# Altium footprint library Conn_Wurth_Electronics_74655095R_eec_MFG.PcbLib: 1 footprints
Each footprint in its own frame and in the unit in brackets; x right, y up, seen from the top. Pads: shape width x height; smd on the part's side, far side on the other; paste and mask are expansions set on the pad; w line width, h text height; cw(c..) or ccw(c..) is an arc to the next point about the centre after c.
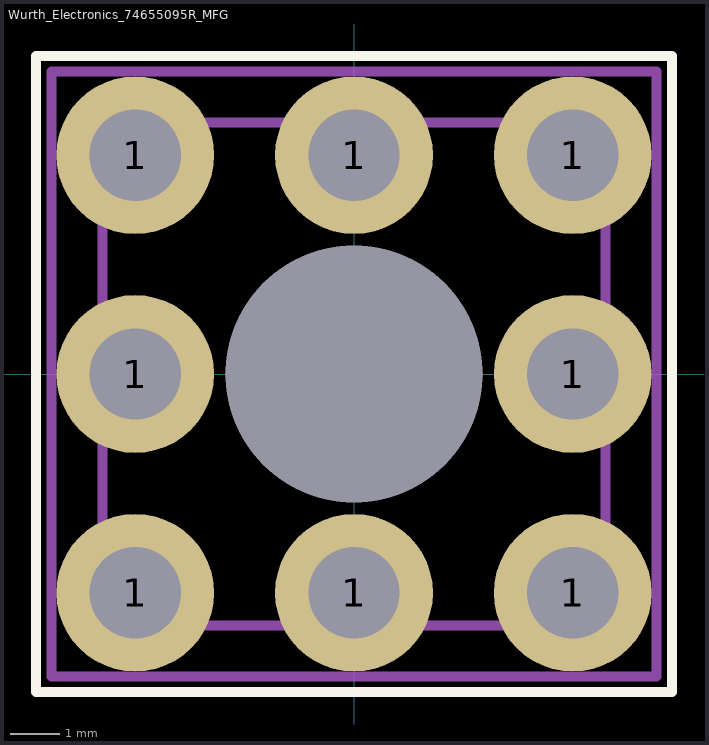
[diagram p0: the footprint, top view; thin cyan lines are the x and y axes]

## Wurth_Electronics_74655095R_MFG [mm]
pads (9):
  round 3.2 hole 1.85 paste-1000 mask+0: 1(-4.435,-4.435) 1(-4.435,0) 1(-4.435,4.435) 1(0,-4.435) 1(0,4.435) 1(4.435,-4.435) 1(4.435,0) 1(4.435,4.435)
  round 5.2 hole 5.2 unplated paste-1000 mask+0: ""(0,0)
Top Overlay:
  lines w0.2: -6.45,-6.45 6.45,-6.45 6.45,6.45 -6.45,6.45 -6.45,-6.45
Top Paste:
  circle w1.55: c-4.435,4.435 r0.775
  circle w1.55: c0,4.435 r0.775
  circle w1.55: c4.435,4.435 r0.775
  circle w1.55: c-4.435,-4.435 r0.775
  circle w1.55: c0,-4.435 r0.775
  circle w1.55: c4.435,-4.435 r0.775
  circle w1.55: c-4.435,0 r0.775
  circle w1.55: c4.435,0 r0.775
Mechanical 10:
  lines w0.2: -6.135,-6.135 6.135,-6.135 6.135,6.135 -6.135,6.135 -6.135,-6.135
  text ".Designator" at 0,0 h1
Mechanical 12:
  lines w0.2: -5.1,-5.1 5.1,-5.1 5.1,5.1 -5.1,5.1 -5.1,-5.1
Mechanical 15:
  lines w0.1: -0.5,0 0.5,0 ; 0,-0.5 0,0.5
  lines w0.2: -6.135,-6.135 6.135,-6.135 6.135,6.135 -6.135,6.135 -6.135,-6.135
3D body "Conn_Wurth_Electronics_74655095R_eec.STEP": height 0.25, standoff 0, extent -6.135,-6.135 6.135,6.135